# EAGLE library part B08B-PUDSS-1 (library con-jst-pud)
JST connector, PUD series, 2.0mm spacing, crimp style, wire-to-board, 08 pin, top entry (with boss)
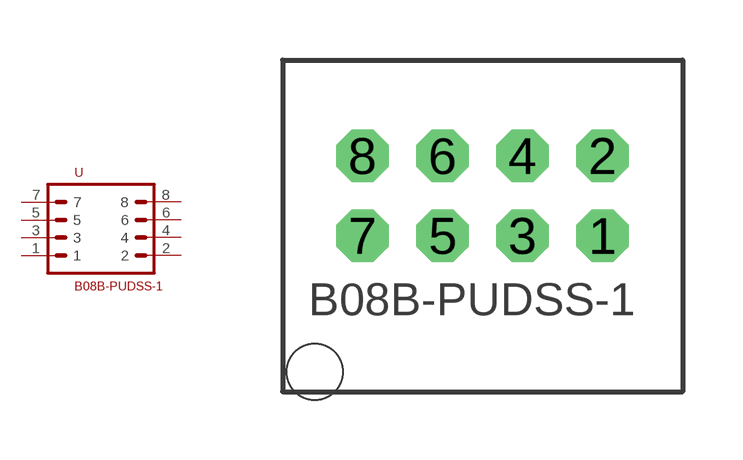
[diagram p8: symbol with the pads of PUD_08_PIN_TOP_ENTRY; footprint PUD_08_PIN_TOP_ENTRY]

Designator prefix -

## B08B-PUDSS-1 (DIGIKEY: 455-2499-ND; MF: JST; MPN: B08B-PUDSS-1)  [PUD_08_PIN_TOP_ENTRY]
1  1
2  2
3  3
4  4
5  5
6  6
7  7
8  8

## Footprint PUD_08_PIN_TOP_ENTRY (pad centres in mm)
drill 0.8 octagon: 1 3,0; 2 3,2; 3 1,0; 4 1,2; 5 -1,0; 6 -1,2; 7 -3,0; 8 -3,2
hole 1.4 at -4.2,-3.4